# Altium footprint library BGT24LTR11_RF-Shield_Board_V3.0.PcbLib: 31 footprints (part 2 of 2)
Each footprint in its own frame and in the unit in brackets; x right, y up, seen from the top. Pads: shape width x height; smd on the part's side, far side on the other; paste and mask are expansions set on the pad; w line width, h text height; cw(c..) or ccw(c..) is an arc to the next point about the centre after c.
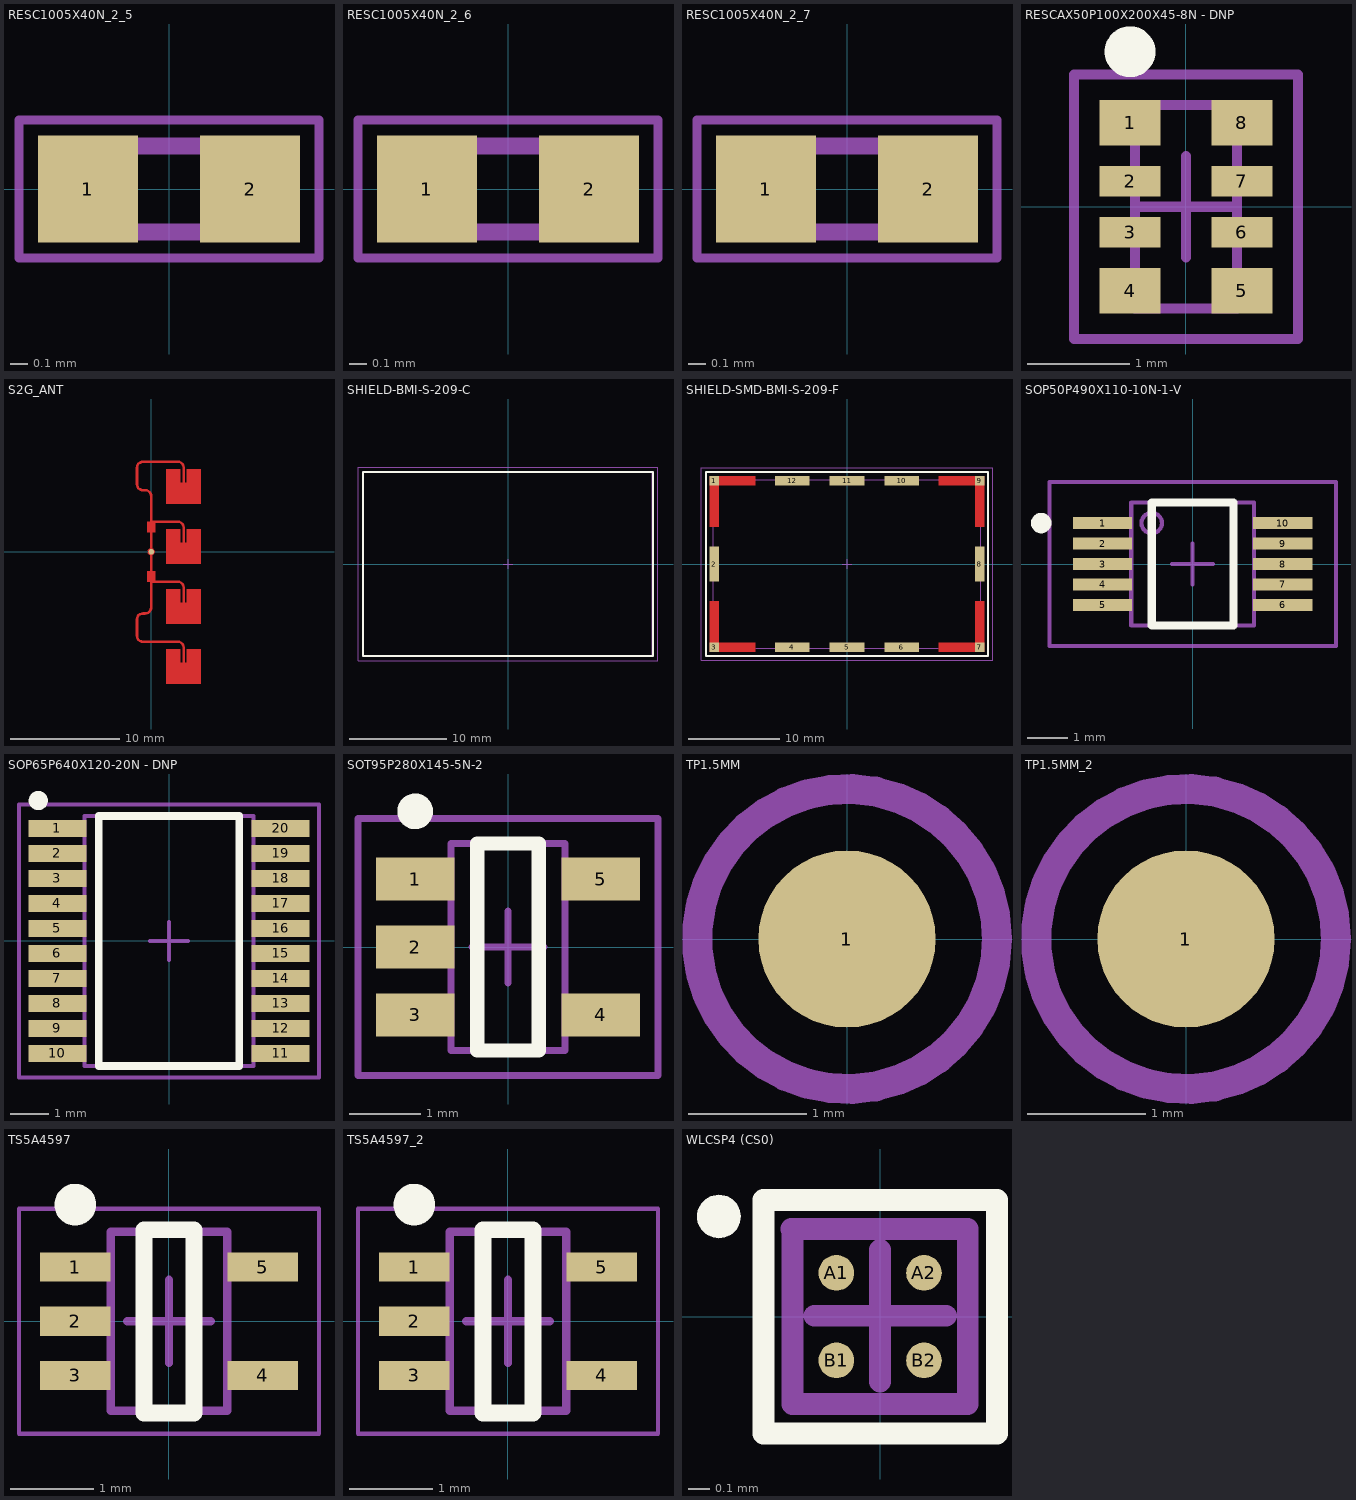
[diagram p1: the footprints below, top view; thin cyan lines are the x and y axes]

## RESC1005X40N_2_5 [mm]
pads (2):
  rect 0.58x0.62 smd: 1(-0.47,0) 2(0.47,0)
Mechanical 13:
  lines w0.1: -0.5,-0.25 0.5,-0.25 0.5,0.25 -0.5,0.25 -0.5,-0.25
Mechanical 15:
  lines w0.05: -0.87,-0.4 -0.87,0.4 0.87,0.4 0.87,-0.4 -0.87,-0.4
3D body: height 0.3, standoff 0.05, extent -0.449,-0.249 0.449,0.249
3D body: height 0.3, standoff 0.05, extent 0.449,-0.249 0.498,0.249
3D body: height 0.3, standoff 0.05, extent -0.498,-0.25 -0.449,0.249
3D body: height 0.05, standoff 0, extent -0.498,-0.25 -0.249,0.249
3D body: height 0.35, standoff 0.3, extent -0.498,-0.25 -0.249,0.249
3D body: height 0.35, standoff 0.3, extent 0.249,-0.249 0.498,0.249
3D body: height 0.05, standoff 0, extent 0.249,-0.249 0.498,0.249
3D body: height 0.35, standoff 0.3, extent -0.249,-0.249 0.249,0.249

## RESC1005X40N_2_6 [mm]
pads (2):
  rect 0.58x0.62 smd: 1(-0.47,0) 2(0.47,0)
Mechanical 13:
  lines w0.1: -0.5,-0.25 0.5,-0.25 0.5,0.25 -0.5,0.25 -0.5,-0.25
Mechanical 15:
  lines w0.05: -0.87,-0.4 -0.87,0.4 0.87,0.4 0.87,-0.4 -0.87,-0.4
3D body: height 0.3, standoff 0.05, extent -0.449,-0.249 0.449,0.249
3D body: height 0.3, standoff 0.05, extent 0.449,-0.249 0.498,0.249
3D body: height 0.3, standoff 0.05, extent -0.498,-0.25 -0.449,0.249
3D body: height 0.05, standoff 0, extent -0.498,-0.25 -0.249,0.249
3D body: height 0.35, standoff 0.3, extent -0.498,-0.25 -0.249,0.249
3D body: height 0.35, standoff 0.3, extent 0.249,-0.249 0.498,0.249
3D body: height 0.05, standoff 0, extent 0.249,-0.249 0.498,0.249
3D body: height 0.35, standoff 0.3, extent -0.249,-0.249 0.249,0.249

## RESC1005X40N_2_7 [mm]
pads (2):
  rect 0.58x0.62 smd: 1(-0.47,0) 2(0.47,0)
Mechanical 13:
  lines w0.1: -0.5,-0.25 0.5,-0.25 0.5,0.25 -0.5,0.25 -0.5,-0.25
Mechanical 15:
  lines w0.05: -0.87,-0.4 -0.87,0.4 0.87,0.4 0.87,-0.4 -0.87,-0.4
3D body: height 0.3, standoff 0.05, extent -0.449,-0.249 0.449,0.249
3D body: height 0.3, standoff 0.05, extent 0.449,-0.249 0.498,0.249
3D body: height 0.3, standoff 0.05, extent -0.498,-0.25 -0.449,0.249
3D body: height 0.05, standoff 0, extent -0.498,-0.25 -0.249,0.249
3D body: height 0.35, standoff 0.3, extent -0.498,-0.25 -0.249,0.249
3D body: height 0.35, standoff 0.3, extent 0.249,-0.249 0.498,0.249
3D body: height 0.05, standoff 0, extent 0.249,-0.249 0.498,0.249
3D body: height 0.35, standoff 0.3, extent -0.249,-0.249 0.249,0.249

## RESCAX50P100X200X45-8N - DNP [mm] "Resistor,Chip Array,0.50mm pitch;8 pin,1.00mm W X 2.00mm L X 0.45mm H"
height 0.45
pads (8):
  rect 0.6x0.45 smd paste+0 mask+0: 1(-0.55,0.825) 4(-0.55,-0.825) 5(0.55,-0.825) 8(0.55,0.825)
  rect 0.6x0.3 smd paste+0 mask+0: 2(-0.55,0.25) 3(-0.55,-0.25) 6(0.55,-0.25) 7(0.55,0.25)
Top Overlay:
  circle w0.25: c-0.55,1.524 r0.125
Mechanical 4:
  text ".DESIGNATOR" at 0,0 h1.2
Mechanical 13:
  lines w0.1: -0.5,-1 -0.5,1 0.5,1 0.5,-1 -0.5,-1
Mechanical 15:
  lines w0.1: -0.5,0 0.5,0 ; 0,-0.5 0,0.5 ; -1.1,-1.3 -1.1,1.3 1.1,1.3 1.1,-1.3 -1.1,-1.3

## S2G_ANT [mm]
pads (1):
  round 0.5 smd mask+0.051: 1(0.002,0)
Top Layer:
  region: 217 vertices and 0 holes, not listed, extent -1.418,-12.12 4.552,8.35
Top Solder:
  region: -4.254,12.63 -4.254,-14.87 7.5,-14.87 7.5,12.63

## SHIELD-BMI-S-209-C [mm] "Shield, 29.86 mm L X 19.00 mm W X 1.85 mm H body"
height 1.85
Top Overlay:
  lines w0.2: -15,-9.5 -15,9.5 15,9.5 15,-9.5 -15,-9.5
Mechanical 3:
  text ".DESIGNATOR" at 0,0 h1.2
Mechanical 13:
  lines w0.1: -14.93,-9.5 -14.93,9.5 14.93,9.5 14.93,-9.5 -14.93,-9.5
Mechanical 15:
  lines w0.1: -0.5,0 0.5,0 ; 0,-0.5 0,0.5 ; -15.5,-10 15.5,-10 15.5,10 -15.5,10 -15.5,-10
3D body "bmi-s-209-20-r_asm.stp": height 2.14, standoff -0.01, extent -14.93,-9.5 14.93,9.5

## SHIELD-SMD-BMI-S-209-F [mm] "Shield, SMD, 12 pin, 29.36 mm L X 18.50 mm W X 2.10 mm H body"
height 2.1
pads (12):
  rect 1x1 smd paste-0.5 mask-0.5: 1(-14.58,9.15) 7(14.58,-9.15) 9(14.58,9.15)
  rect 1x3.8 smd paste+0 mask+0: 2(-14.58,0) 8(14.58,0)
  rect 1x1 smd paste-1 mask-1: 3(-14.58,-9.15)
  rect 3.8x1 smd paste+0 mask+0: 4(-6,-9.15) 5(0,-9.15) 6(6,-9.15) 10(6,9.15) 11(0,9.15) 12(-6,9.15)
Top Layer:
  region: -15.08,4.1 -14.08,4.1 -14.08,8.65 -10.1,8.65 -10.1,9.65 -15.08,9.65
  region: 15.08,-4.1 14.08,-4.1 14.08,-8.65 10.1,-8.65 10.1,-9.65 15.08,-9.65
  region: 15.08,4.1 14.08,4.1 14.08,8.65 10.1,8.65 10.1,9.65 15.08,9.65
  region: -15.08,-4.1 -14.08,-4.1 -14.08,-8.65 -10.1,-8.65 -10.1,-9.65 -15.08,-9.65
Top Overlay:
  lines w0.2: -15.5,-10.1 15.5,-10.1 15.5,10.1 -15.5,10.1 -15.5,-10.1
Mechanical 3:
  text ".DESIGNATOR" at 0,0 h1.2
Mechanical 13:
  lines w0.1: -14.68,-9.25 -14.68,9.25 14.68,9.25 14.68,-9.25 -14.68,-9.25
Mechanical 15:
  lines w0.1: -0.5,0 0.5,0 ; 0,-0.5 0,0.5 ; -16,-10.6 16,-10.6 16,10.6 -16,10.6 -16,-10.6
3D body "SHIELD FRAME_29.36X18.5X2.1.STEP": height 2.1, standoff 0, extent -14.68,-9.25 14.68,9.25

## SOP50P490X110-10N-1-V [mm] "SOP,0.50mm pitch;10 pin,3.00mm W X 3.00mm L X 1.10mm H body"
height 1.1
pads (10):
  rect 1.45x0.3 smd paste+0 mask+0.05: 1(-2.2,1) 2(-2.2,0.5) 3(-2.2,0) 4(-2.2,-0.5) 5(-2.2,-1) 6(2.2,-1) 7(2.2,-0.5) 8(2.2,0) 9(2.2,0.5) 10(2.2,1)
Top Overlay:
  circle w0.25: c-3.7,1 r0.125
  lines w0.2: -1,-1.5 -1,1.5 1,1.5 1,-1.5 -1,-1.5
Mechanical 3:
  text ".DESIGNATOR" at 0,0 h1.2
Mechanical 13:
  circle w0.1: c-1,1 r0.25
  lines w0.1: -1.5,-1.5 1.5,-1.5 1.5,1.5 -1.5,1.5 -1.5,-1.5
Mechanical 15:
  lines w0.1: -0.5,0 0.5,0 ; 0,-0.5 0,0.5 ; -3.5,-2 -3.5,2 3.5,2 3.5,-2 -3.5,-2
3D body "DGS0010A.stp": height 1.1, standoff 0, extent -2.462,-1.5 2.463,1.5

## SOP65P640X120-20N - DNP [mm] "SOP,0.65mm pitch;20 pin,4.40mm W X 6.50mm L X 1.20mm H body"
height 1.2
pads (20):
  rect 1.5x0.45 smd paste+0 mask+0: 1(-2.9,2.925) 2(-2.9,2.275) 3(-2.9,1.625) 4(-2.9,0.975) 5(-2.9,0.325) 6(-2.9,-0.325) 7(-2.9,-0.975) 8(-2.9,-1.625) 9(-2.9,-2.275) 10(-2.9,-2.925) 11(2.9,-2.925) 12(2.9,-2.275) 13(2.9,-1.625) 14(2.9,-0.975) 15(2.9,-0.325) 16(2.9,0.325) 17(2.9,0.975) 18(2.9,1.625) 19(2.9,2.275) 20(2.9,2.925)
Top Overlay:
  circle w0.25: c-3.4,3.65 r0.125
  lines w0.2: -1.825,-3.25 1.825,-3.25 1.825,3.25 -1.825,3.25 -1.825,-3.25
Mechanical 4:
  text ".DESIGNATOR" at 0,0 h0.7
Mechanical 13:
  lines w0.1: -2.2,-3.25 2.2,-3.25 2.2,3.25 -2.2,3.25 -2.2,-3.25
Mechanical 15:
  lines w0.1: -0.5,0 0.5,0 ; 0,-0.5 0,0.5 ; -3.9,-3.55 3.9,-3.55 3.9,3.55 -3.9,3.55 -3.9,-3.55

## SOT95P280X145-5N-2 [mm] "SOT,0.95mm pitch;5 pin,1.60mm W X 2.90mm L X 1.45mm H body"
height 1.45
pads (5):
  rect 1.1x0.6 smd paste+0 mask+0: 1(-1.3,0.95) 2(-1.3,0) 3(-1.3,-0.95) 4(1.3,-0.95) 5(1.3,0.95)
Top Overlay:
  circle w0.25: c-1.3,1.9 r0.125
  lines w0.2: -0.43,-1.45 -0.43,1.45 0.43,1.45 0.43,-1.45 -0.43,-1.45
Mechanical 4:
  text ".DESIGNATOR" at 0,0 h0.7
Mechanical 13:
  lines w0.1: -0.8,-1.45 -0.8,1.45 0.8,1.45 0.8,-1.45 -0.8,-1.45
Mechanical 15:
  lines w0.1: -0.5,0 0.5,0 ; 0,-0.5 0,0.5 ; -2.1,-1.8 -2.1,1.8 2.1,1.8 2.1,-1.8 -2.1,-1.8
3D body "DBV0005A.stp": height 1.09, standoff 0, extent -1.422,-1.461 1.423,1.461

## TP1.5MM [mm]
height 0.1
pads (1):
  round 1.5 smd: 1(0,0)
Mechanical 13:
  circle w0.254: c0,0 r1.27

## TP1.5MM_2 [mm]
pads (1):
  round 1.5 smd: 1(0,0)
Mechanical 13:
  circle w0.254: c0,0 r1.27

## TS5A4597 [mm] "SOT23, 5-Leads, Body 2.00x2.10mm, Pitch 0.65mm, IPC Medium Density"
height 1.1
pads (5):
  rect 0.85x0.35 smd: 1(-1.125,0.65) 2(-1.125,0) 3(-1.125,-0.65) 4(1.125,-0.65) 5(1.125,0.65)
Top Overlay:
  circle w0.25: c-1.125,1.4 r0.125
  lines w0.2: -0.3,-1.1 -0.3,1.1 0.3,1.1 0.3,-1.1 -0.3,-1.1
Mechanical 13:
  lines w0.1: -0.7,-1.075 0.7,-1.075 0.7,1.075 -0.7,1.075 -0.7,-1.075
Mechanical 15:
  lines w0.05: -1.8,-1.35 1.8,-1.35 1.8,1.35 -1.8,1.35 -1.8,-1.35
  lines w0.1: -0.5,0 0.5,0 ; 0,-0.5 0,0.5
3D body: height 1.1, standoff 0.05, extent -0.7,-1.075 0.7,1.075

## TS5A4597_2 [mm]
pads (5):
  rect 0.85x0.35 smd: 1(-1.125,0.65) 2(-1.125,0) 3(-1.125,-0.65) 4(1.125,-0.65) 5(1.125,0.65)
Top Overlay:
  circle w0.25: c-1.125,1.4 r0.125
  lines w0.2: -0.3,-1.1 -0.3,1.1 0.3,1.1 0.3,-1.1 -0.3,-1.1
Mechanical 13:
  lines w0.1: -0.7,-1.075 0.7,-1.075 0.7,1.075 -0.7,1.075 -0.7,-1.075
Mechanical 15:
  lines w0.05: -1.8,-1.35 1.8,-1.35 1.8,1.35 -1.8,1.35 -1.8,-1.35
  lines w0.1: -0.5,0 0.5,0 ; 0,-0.5 0,0.5
3D body: height 1.1, standoff 0.05, extent -0.7,-1.075 0.7,1.075

## WLCSP4 (CS0) [mm] "WLCSP Package, 0.4mm Pin Pitch"
height 0.295
pads (5):
  round 0.163 smd mask+0.05: A1(-0.2,0.2) A2(0.2,0.2) B1(-0.2,-0.2) B2(0.2,-0.2)
  round 0.2 on Top Overlay: ""(-0.737,0.457)
Top Overlay:
  lines w0.1: -0.533,-0.533 -0.533,0.533 0.533,0.533 0.533,-0.533 -0.533,-0.533
Mechanical 1:
  lines w0.1: -0.4,-0.4 -0.4,0.4 0.4,0.4 0.4,-0.4 -0.4,-0.4
Mechanical 3:
  lines w0.1: -0.406,0.4 0.4,0.4 ; -0.4,0.4 -0.4,-0.4 0.4,-0.4 0.4,0.394 ; -0.301,0.004 0.301,0.004 ; 0,-0.297 0,0.305
3D body: height 0.23, standoff 0.07, extent -0.4,-0.4 0.4,0.4